# Altium schematic symbol library 74LVC2G34GV.SchLib: 1 symbol
Pins are listed as number, name and electrical type; pins without a type are passive.

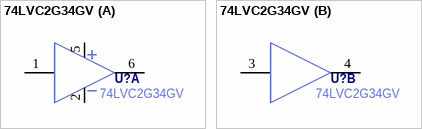
[diagram p0: symbol 74LVC2G34GV]

## 74LVC2G34GV
designator U?
part A pins: 1 NC hidden, 1 A1, 2 GND, 5 VCC, 6 Y1
part B pins: 3 A2, 4 Y2